# EAGLE library part CC1101 (library ds_ic_peripherals)
Low-power Sub-1 GHz wireless transceiver
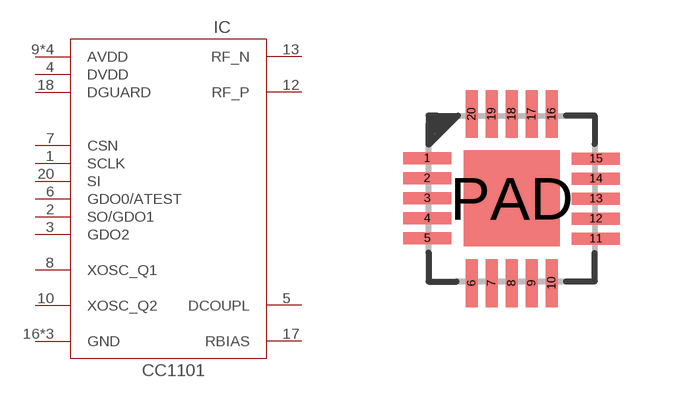
[diagram p8: symbol with the pads of QFN20; footprint QFN20]

Designator prefix IC

## CC1101  [QFN20]
1  SCLK
2  SO/GDO1
3  GDO2
4  DVDD
5  DCOUPL
6  GDO0/ATEST
7  CSN
8  XOSC_Q1
9  AVDD
10  XOSC_Q2
11  AVDD
12  RF_P
13  RF_N
14  AVDD
15  AVDD
16  GND
17  RBIAS
18  DGUARD
19  GND
20  SI
PAD  GND

## Footprint QFN20 (pad centres in mm)
smd 1.2 x 0.3: 1 -0.04,3.085; 2 -0.04,2.585; 3 -0.04,2.085; 4 -0.04,1.585; 5 -0.04,1.085; 11 4.18,1.075; 12 4.18,1.575; 13 4.18,2.075; 14 4.18,2.575; 15 4.18,3.075
smd 0.3 x 1.2: 6 1.075,-0.035; 7 1.575,-0.035; 8 2.075,-0.035; 9 2.575,-0.035; 10 3.075,-0.035; 16 3.075,4.19; 17 2.575,4.19; 18 2.075,4.19; 19 1.575,4.19; 20 1.075,4.19
smd 2.4 x 2.4: PAD 2.08,2.08